# Altium footprint library Elec2PCB_Du_An_Part1.PcbLib: 20 footprints (part 1 of 2)
Each footprint in its own frame and in the unit in brackets; x right, y up, seen from the top. Pads: shape width x height; smd on the part's side, far side on the other; paste and mask are expansions set on the pad; w line width, h text height; cw(c..) or ccw(c..) is an arc to the next point about the centre after c.
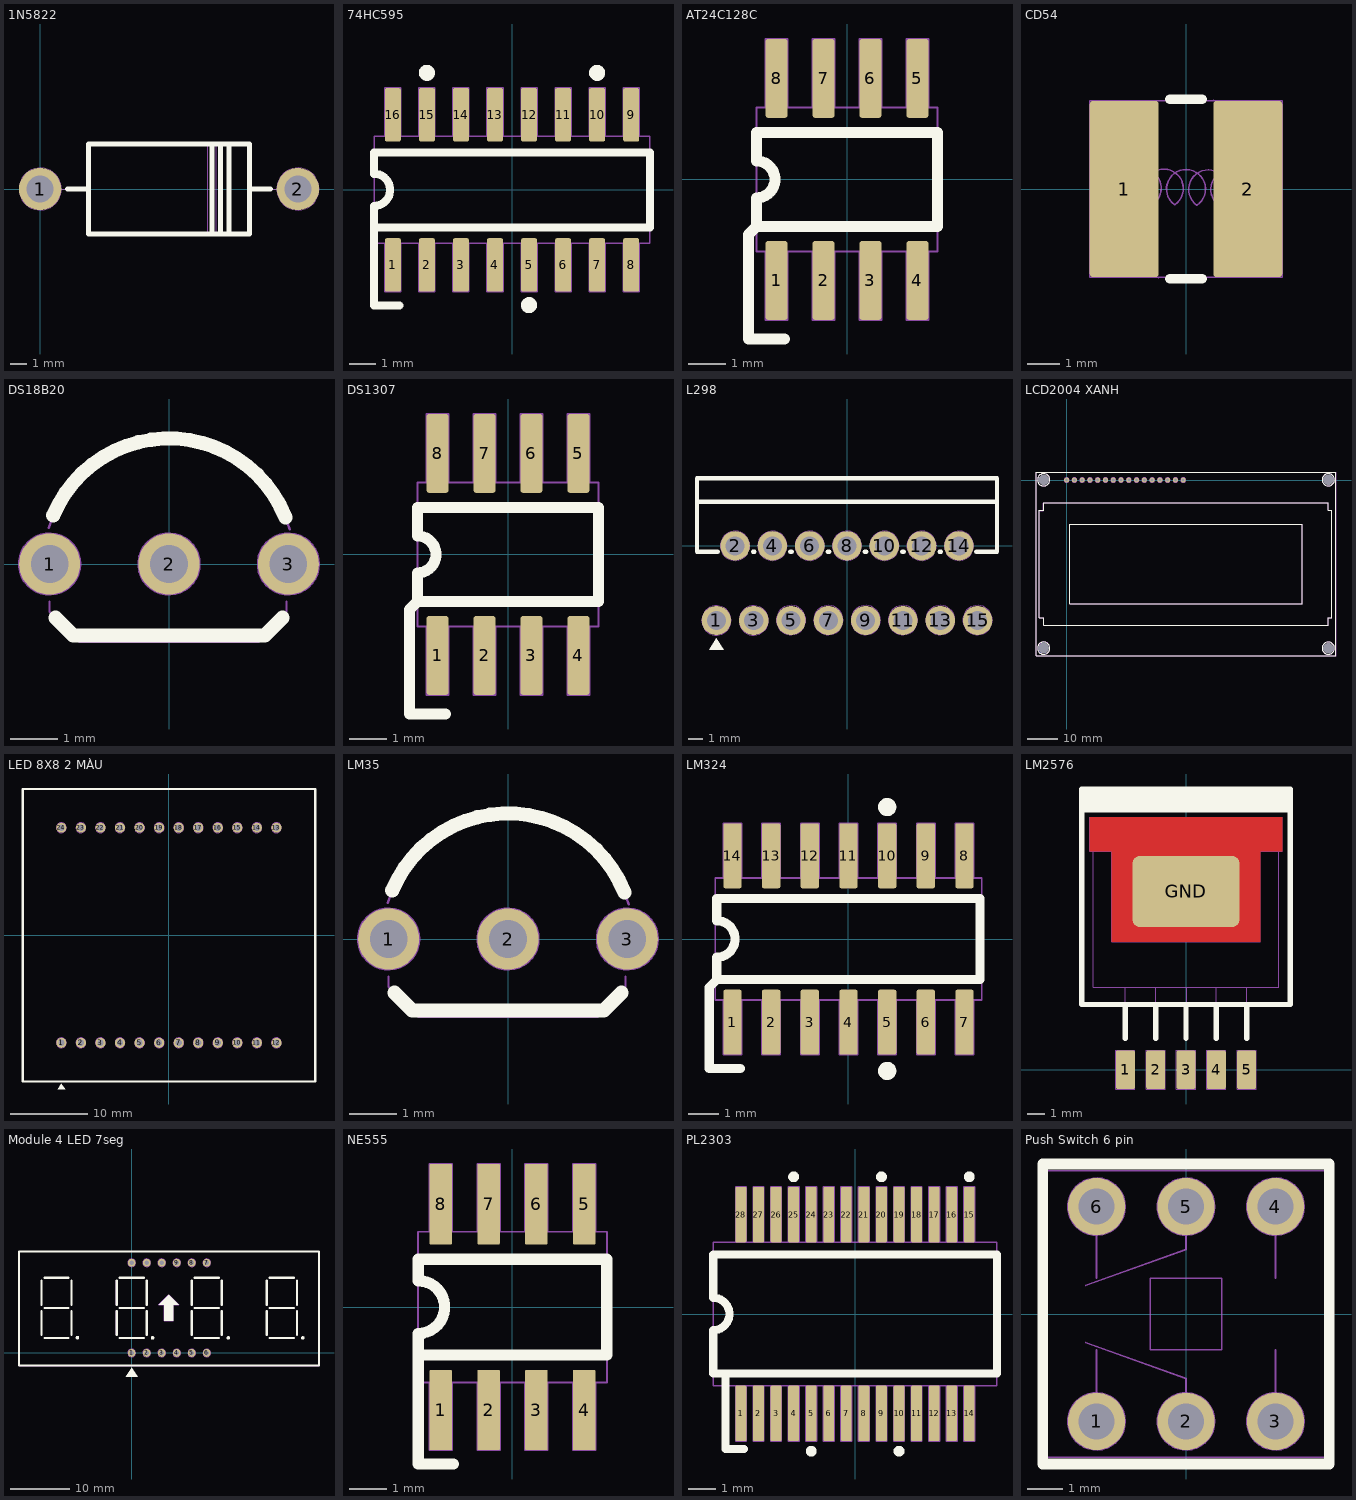
[diagram p0: the footprints below, top view; thin cyan lines are the x and y axes]

## 1N5822 [mm] "Diode 1N5822  9.5mmx5.6mm"
height 5.3
pads (2):
  round 2.5 hole 1.6 paste+0 mask+0.1: 1(0,0) 2(15.24,0)
Top Overlay:
  lines w0.3: 1.62,0 2.87,0 ; 10.16,-2.54 10.16,2.65 ; 10.668,-2.54 10.668,2.65 ; 11.176,-2.54 11.176,2.65 ; 12.37,0 13.62,0 ; 2.87,-2.65 2.87,2.65 12.37,2.65 12.37,-2.65 2.87,-2.65
Mechanical 1:
  circle w0.05: c0,0 r1.25
  circle w0.05: c15.24,0 r1.25
  lines w0.05: 1.25,0 2.87,0 ; 9.906,-2.65 9.906,2.65 ; 10.16,-2.65 10.16,2.65 ; 10.414,-2.65 10.414,2.65 ; 10.668,-2.65 10.668,2.65 ; 12.37,0 13.97,0 ; 2.87,-2.65 2.87,2.65 12.37,2.65 12.37,-2.65 2.87,-2.65
  text "A" at -0.254,-0.508 h1
  text "K" at 14.986,-0.508 h1
3D body "User Library-DO-15-60.STEP": height 3.53, standoff -2, extent -0.525,-1.748 15.765,1.749

## 74HC595 [mm] "SOIC 16-Leads, Body 10.0x6.2mm (max), Pitch 1.27mm"
height 1.75
pads (16):
  rrect25% 0.6x2 smd paste+0 mask+0.1: 1(-4.445,-2.8) 2(-3.175,-2.8) 3(-1.905,-2.8) 4(-0.635,-2.8) 5(0.635,-2.8) 6(1.905,-2.8) 7(3.175,-2.8) 8(4.445,-2.8) 9(4.445,2.8) 10(3.175,2.8) 11(1.905,2.8) 12(0.635,2.8) 13(-0.635,2.8) 14(-1.905,2.8) 15(-3.175,2.8) 16(-4.445,2.8)
Top Overlay:
  circle w0.3: c0.635,-4.3 r0.15
  circle w0.3: c-3.175,4.365 r0.15
  circle w0.3: c3.175,4.365 r0.15
  lines w0.3: -5.145,-2 -5.145,-0.6 ccw(c-5.145,0) -5.145,0.6 -5.145,1.397 5.145,1.397 5.145,-1.397 -5.145,-1.397 -5.145,-4.318 -4.205,-4.318
Mechanical 1:
  lines w0.05: -5.145,-0.6 ccw(c-5.145,0) -5.145,0.6 ; -5.145,-2 5.145,-2 5.145,2 -5.145,2 -5.145,-2 ; -4.745,-3.8 -4.745,-2 -4.145,-2 -4.145,-3.8 -4.745,-3.8 ; -4.745,2 -4.745,3.8 -4.145,3.8 -4.145,2 -4.745,2 ; -3.475,-3.8 -2.875,-3.8 -2.875,-2 -3.475,-2 -3.475,-3.8 ; -3.475,2 -3.475,3.8 -2.875,3.8 -2.875,2 -3.475,2 ; -2.205,-3.8 -1.605,-3.8 -1.605,-2 -2.205,-2 -2.205,-3.8 ; -2.205,2 -2.205,3.8 -1.605,3.8 -1.605,2 -2.205,2 ; -0.935,-3.8 -0.335,-3.8 -0.335,-2 -0.935,-2 -0.935,-3.8 ; -0.935,2 -0.935,3.8 -0.335,3.8 -0.335,2 -0.935,2 ; 0.335,-3.8 0.935,-3.8 0.935,-2 0.335,-2 0.335,-3.8 ; 0.335,2 0.335,3.8 0.935,3.8 0.935,2 0.335,2 ; 1.605,-3.8 2.205,-3.8 2.205,-2 1.605,-2 1.605,-3.8 ; 1.605,2 1.605,3.8 2.205,3.8 2.205,2 1.605,2 ; 2.875,-3.8 3.475,-3.8 3.475,-2 2.875,-2 2.875,-3.8 ; 2.875,2 2.875,3.8 3.475,3.8 3.475,2 2.875,2 ; 4.145,-3.8 4.745,-3.8 4.745,-2 4.145,-2 4.145,-3.8 ; 4.145,2 4.745,2 4.745,3.8 4.145,3.8 4.145,2
  text "1" at -4.572,-1.657 h0.5
  text "8" at 4.445,-1.657 h0.5
  text "9" at 4.318,1.302 h0.5
  text "16" at -4.699,1.302 h0.5
3D body "SOIC16.STEP": height 1.7, standoff 0, extent -5.1,-2.967 5.1,3.032

## AT24C128C [mm] "SOIC, 8- Leads, Body 4.9x3.9 (max), Pitch 1.27mm"
height 1.75
pads (8):
  rrect25% 0.6x2.135 smd paste+0 mask+0.1: 1(-1.905,-2.732) 2(-0.635,-2.732) 3(0.635,-2.732) 4(1.905,-2.732) 5(1.905,2.733) 6(0.635,2.733) 7(-0.635,2.733) 8(-1.905,2.733)
Top Overlay:
  lines w0.3: -1.688,-4.318 -2.667,-4.318 -2.667,-1.487 -2.45,-1.27 ; -2.45,-1.27 2.45,-1.27 2.45,1.27 -2.45,1.27 -2.45,0.5 cw(c-2.45,0) -2.45,-0.5 -2.45,-1.27
Mechanical 1:
  lines w0.05: -2.45,-0.5 ccw(c-2.45,0) -2.45,0.5 ; -2.45,-1.95 2.45,-1.95 2.45,1.95 -2.45,1.95 -2.45,-1.95 ; -2.205,-3.8 -1.605,-3.8 -1.605,-1.95 -2.205,-1.95 -2.205,-3.8 ; -2.205,1.95 -2.205,3.8 -1.605,3.8 -1.605,1.95 -2.205,1.95 ; -0.935,-3.8 -0.935,-1.95 -0.335,-1.95 -0.335,-3.8 -0.935,-3.8 ; -0.935,1.95 -0.935,3.8 -0.335,3.8 -0.335,1.95 -0.935,1.95 ; 0.335,-3.8 0.335,-1.95 0.935,-1.95 0.935,-3.8 0.335,-3.8 ; 0.335,1.95 0.335,3.8 0.935,3.8 0.935,1.95 0.335,1.95 ; 1.605,-3.8 1.605,-1.95 2.205,-1.95 2.205,-3.8 1.605,-3.8 ; 1.605,1.95 2.205,1.95 2.205,3.8 1.605,3.8 1.605,1.95
  text "1" at -2.032,-1.797 h0.5
  text "4" at 1.778,-1.797 h0.5
  text "8" at -2.032,1.189 h0.5
  text "5" at 1.778,1.189 h0.5
3D body "SOIC8.STEP": height 1.7, standoff 0, extent -2.45,-3 2.45,3

## CD54 [mm] "Inductor CD54 100uH 5.5mmx6mm"
height 4.85
pads (2):
  rrect10% 2.15x5.5 smd paste+0 mask+0.1: 1(-1.925,0) 2(1.925,0)
Top Overlay:
  lines w0.3: -0.508,-2.794 0.508,-2.794 ; -0.508,2.794 0.508,2.794
Mechanical 1:
  lines w0.05: -2.857,-0.499 ccw(c0,0) -0.856,-2.771 ; -2.857,0.499 cw(c0,0) -0.915,2.752 ; -2.846,0.497 cw(c-2.9,0) -2.843,-0.497 ; -2.4,0.003 -1.99,0.003 cw(c-1.382,0.022) -1.045,-0.484 cw(c-0.691,0.011) -0.354,-0.495 cw(c0,0) 0.337,-0.506 cw(c0.691,-0.011) 1.028,-0.517 cw(c1.382,-0.022) 1.99,-0.006 2.4,-0.006 ; 0.856,2.771 cw(c0,0) 2.857,0.499 ; 0.915,-2.752 ccw(c0,0) 2.857,-0.499 ; 2.843,0.497 ccw(c2.9,0) 2.846,-0.497
  lines w0.06: -3,-2.75 -3,2.75 -0.85,2.75 0.85,2.75 3,2.75 3,-2.75 0.85,-2.75 -0.85,-2.75 -3,-2.75
3D body "User Library-Inductor VLCF5020T-100M1R1-1.step": height 3.05, standoff 0.1, extent -2.5,-2.5 2.5,2.5

## DS18B20 [mm] "DS18B20_TO-92"
height 6.5
pads (3):
  round 1.3 hole 0.8 mask+0.1: 1(-2.54,0) 2(0,0) 3(2.54,0)
Top Overlay:
  lines w0.3: -2.461,1.036 cw(c0,0) 2.479,0.992 ; -2.413,-1.143 -2.036,-1.52 2.036,-1.52 2.413,-1.143
Mechanical 1:
  circle w0.05: c2.54,0 r0.65
  circle w0.05: c0,0 r0.65
  circle w0.05: c-2.54,0 r0.65
  lines w0.05: -2.557,0.767 cw(c0,0) 2.567,0.734 ; -2.54,-0.8 -2.54,-1.016 -1.905,-1.651 1.905,-1.651 2.5,-1.056 2.5,-0.8
  text "VD" at 2.337,-0.152 h0.3
  text "GND" at -2.972,-0.152 h0.3
  text "Data" at -0.533,-0.152 h0.3
Mechanical 15:
  lines w0.1: -0.5,0 0.5,0 ; 0,-0.5 0,0.5
3D body "TO-92_Bent.STEP": height 10, standoff -3, extent -2.79,-1.59 2.79,2.613

## DS1307 [mm] "SOIC, 8- Leads, Body 4.9x3.9 (max), Pitch 1.27mm"
height 1.75
pads (8):
  rrect25% 0.6x2.135 smd paste+0 mask+0.1: 1(-1.905,-2.732) 2(-0.635,-2.732) 3(0.635,-2.732) 4(1.905,-2.732) 5(1.905,2.733) 6(0.635,2.733) 7(-0.635,2.733) 8(-1.905,2.733)
Top Overlay:
  lines w0.3: -1.688,-4.318 -2.667,-4.318 -2.667,-1.487 -2.45,-1.27 ; -2.45,-1.27 -2.45,-0.5 ccw(c-2.45,0) -2.45,0.5 -2.45,1.27 2.45,1.27 2.45,-1.27 -2.45,-1.27
Mechanical 1:
  lines w0.05: -2.45,-0.5 ccw(c-2.45,0) -2.45,0.5 ; -2.45,-1.95 -2.45,1.95 2.45,1.95 2.45,-1.95 -2.45,-1.95 ; -2.205,-3.8 -2.205,-1.95 -1.605,-1.95 -1.605,-3.8 -2.205,-3.8 ; -2.205,1.95 -1.605,1.95 -1.605,3.8 -2.205,3.8 -2.205,1.95 ; -0.935,-3.8 -0.335,-3.8 -0.335,-1.95 -0.935,-1.95 -0.935,-3.8 ; -0.935,1.95 -0.335,1.95 -0.335,3.8 -0.935,3.8 -0.935,1.95 ; 0.335,-3.8 0.935,-3.8 0.935,-1.95 0.335,-1.95 0.335,-3.8 ; 0.335,1.95 0.935,1.95 0.935,3.8 0.335,3.8 0.335,1.95 ; 1.605,-3.8 2.205,-3.8 2.205,-1.95 1.605,-1.95 1.605,-3.8 ; 1.605,1.95 1.605,3.8 2.205,3.8 2.205,1.95 1.605,1.95
  text "5" at 1.778,1.189 h0.5
  text "8" at -2.032,1.189 h0.5
  text "4" at 1.778,-1.697 h0.5
  text "1" at -2.032,-1.697 h0.5
3D body "SOIC8.STEP": height 1.7, standoff 0, extent -2.45,-3 2.45,3

## L298 [mm] "15pin DIP, 3A"
height 21
pads (15):
  round 2 hole 1.3 mask+0.1: 1(-8.89,-5.08) 2(-7.62,0) 3(-6.35,-5.08) 4(-5.08,0) 5(-3.81,-5.08) 6(-2.54,0) 7(-1.27,-5.08) 8(0,0) 9(1.27,-5.08) 10(2.54,0) 11(3.81,-5.08) 12(5.08,0) 13(6.35,-5.08) 14(7.62,0) 15(8.89,-5.08)
Top Overlay:
  region: -8.89,-6.28 -9.39,-7.08 -8.39,-7.08
  lines w0.3: -10.211,3.007 10.211,3.007 ; -8.8,-0.4 -10.211,-0.4 -10.211,4.607 10.211,4.607 10.211,-0.4 8.8,-0.4 ; -6.401,-0.4 -6.299,-0.4 ; -3.861,-0.4 -3.759,-0.4 ; -1.321,-0.4 -1.219,-0.4 ; 1.219,-0.4 1.321,-0.4 ; 3.759,-0.4 3.861,-0.4 ; 6.299,-0.4 6.401,-0.4
Mechanical 1:
  circle w0.05: c-8.89,-5.08 r1
  circle w0.05: c7.62,0 r1
  circle w0.05: c5.08,0 r1
  circle w0.05: c2.54,0 r1
  circle w0.05: c0,0 r1
  circle w0.05: c-2.54,0 r1
  circle w0.05: c-5.08,0 r1
  circle w0.05: c-7.62,0 r1
  circle w0.05: c8.89,-5.055 r1
  circle w0.05: c6.35,-5.055 r1
  circle w0.05: c3.81,-5.055 r1
  circle w0.05: c1.27,-5.055 r1
  circle w0.05: c-1.27,-5.055 r1
  circle w0.05: c-3.81,-5.055 r1
  circle w0.05: c-6.35,-5.08 r1
  lines w0.05: -10.211,2.997 10.185,2.997 ; -8.738,-0.432 -10.211,-0.432 -10.211,4.597 10.185,4.597 10.185,-0.381 8.814,-0.381
  text "14" at 6.934,-0.533 h1
  text "2" at -7.95,-0.533 h1
  text "15" at 8.153,-5.613 h1
  text "1" at -9.144,-5.613 h1
3D body "L298-Multiwatt15V.step": height 21.8, standoff -0.5, extent -9.775,-5.283 9.825,4.607

## LCD2004 XANH [mm]
pads (20):
  round 1.6 hole 1 mask+0.1: 1(0,0)
  round 1.6 hole 1: 2(2.54,0) 3(5.08,0) 4(7.62,0) 5(10.16,0) 6(12.7,0) 7(15.24,0) 8(17.78,0) 9(20.32,0) 10(22.86,0) 11(25.4,0) 12(27.94,0) 13(30.48,0) 14(33.02,0) 15(35.56,0) 16(38.1,0)
  round 0 hole 3.5 mask+0.1: "Hole 0"(-7.5,0.071) "Hole 0"(-7.46,-54.889) "Hole 0"(85.5,-54.929) "Hole 0"(85.5,0.071)
Top Overlay:
  circle w0.3: c-7.5,-54.929 r2.008
  circle w0.3: c-7.5,0.071 r2.008
  circle w0.3: c85.5,0.071 r2.008
  circle w0.3: c85.5,-54.929 r2.008
  lines w0.254: -8.882,-44.929 -7.539,-44.929 -7.5,-44.969 -7.5,-47.429 ; -8.882,-9.929 -7.534,-9.929 -7.5,-9.895 -7.5,-7.429 ; 85.5,-47.429 85.5,-45.056 86.672,-45.056 ; 85.5,-7.429 85.5,-9.902 85.527,-9.929 86.672,-9.929
  lines w0.3: -8.882,-44.929 -8.882,-9.929 ; -7.5,-47.429 85.5,-47.429 ; -7.5,-7.429 85.5,-7.429 ; 86.672,-45.056 86.672,-9.929 ; -10,-57.429 88,-57.429 88,2.571 -10,2.571 -10,-57.429 ; 1,-40.429 77,-40.429 77,-14.429 1,-14.429 1,-40.429
Mechanical 1:
  circle w0.05: c7.62,0 r0.8
  circle w0.05: c0,0 r0.8
  circle w0.05: c85.5,0.071 r2
  circle w0.05: c85.5,-54.929 r2
  circle w0.05: c-7.46,-54.889 r2
  circle w0.05: c-7.5,0.071 r2
  circle w0.05: c38.1,0 r0.8
  circle w0.05: c35.56,0 r0.8
  circle w0.05: c33.02,0 r0.8
  circle w0.05: c30.48,0 r0.8
  circle w0.05: c27.94,0 r0.8
  circle w0.05: c25.4,0 r0.8
  circle w0.05: c22.86,0 r0.8
  circle w0.05: c20.32,0 r0.8
  circle w0.05: c17.78,0 r0.8
  circle w0.05: c15.24,0 r0.8
  circle w0.05: c12.7,0 r0.8
  circle w0.05: c10.16,0 r0.8
  circle w0.05: c5.08,0 r0.8
  circle w0.05: c2.54,0 r0.8
  lines w0.05: -10,2.489 -10,-57.404 88.019,-57.404 88.019,2.515 -9.975,2.515 ; -8.908,-44.983 -7.485,-44.983 -7.485,-47.447 85.529,-47.447 85.529,-45.034 86.672,-45.034 86.672,-9.906 85.479,-9.906 85.479,-7.442 -7.485,-7.442 -7.562,-7.518 -7.562,-9.957 -7.587,-9.982 -8.882,-9.982 -8.908,-10.008 -8.908,-44.983 ; 1.024,-40.411 1.024,-14.478 76.995,-14.478 76.995,-40.411 1.024,-40.411
  text "16" at 37.821,-0.331 h0.5
  text "1" at -0.127,-0.331 h0.5
3D body "User Library-LCD20_4.STEP": height 10.6, standoff -3.2, extent -10.105,-57.333 87.895,2.667
3D body "Header 1x16.STEP": height 1.5, standoff -10.1, extent -1.27,-1.27 39.37,1.27

## LED 8X8 2 MÀU [mm] "LED Matrix 2 color 38x38mm"
height 10.4
pads (24):
  round 1.3 hole 0.8 mask+0.1: 1(-13.97,-13.97) 2(-11.43,-13.97) 3(-8.89,-13.97) 4(-6.35,-13.97) 5(-3.81,-13.97) 6(-1.27,-13.97) 7(1.27,-13.97) 8(3.81,-13.97) 9(6.35,-13.97) 10(8.89,-13.97) 11(11.43,-13.97) 12(13.97,-13.97)
  round 1.3 hole 0.8: 13(13.97,13.97) 14(11.43,13.97) 15(8.89,13.97) 16(6.35,13.97) 17(3.81,13.97) 18(1.27,13.97) 19(-1.27,13.97) 20(-3.81,13.97) 21(-6.35,13.97) 22(-8.89,13.97) 23(-11.43,13.97) 24(-13.97,13.97)
Top Overlay:
  region: -13.97,-19.27 -14.47,-19.97 -13.47,-19.97
  lines w0.3: -19,-19 -19,19 19,19 19,-19 -19,-19
Mechanical 1:
  circle w0.05: c-13.97,-13.97 r0.65
  circle w0.05: c-11.43,-13.97 r0.65
  circle w0.05: c-8.89,-13.97 r0.65
  circle w0.05: c-6.35,-13.97 r0.65
  circle w0.05: c-3.81,-13.97 r0.65
  circle w0.05: c-1.27,-13.97 r0.65
  circle w0.05: c1.27,-13.97 r0.65
  circle w0.05: c3.81,-13.97 r0.65
  circle w0.05: c6.35,-13.97 r0.65
  circle w0.05: c8.89,-13.97 r0.65
  circle w0.05: c11.43,-13.97 r0.65
  circle w0.05: c13.97,-13.97 r0.65
  circle w0.05: c-13.97,13.97 r0.65
  circle w0.05: c-11.43,13.97 r0.65
  circle w0.05: c-3.81,13.97 r0.65
  circle w0.05: c1.27,13.97 r0.65
  circle w0.05: c3.81,13.97 r0.65
  circle w0.05: c6.35,13.97 r0.65
  circle w0.05: c8.89,13.97 r0.65
  circle w0.05: c11.43,13.97 r0.65
  circle w0.05: c13.97,13.97 r0.65
  circle w0.05: c-8.89,13.97 r0.65
  circle w0.05: c-6.35,13.97 r0.65
  circle w0.05: c-1.27,13.97 r0.65
  lines w0.05: -18.975,-18.975 -18.975,18.973 19.024,18.973 19.024,-18.949 18.998,-18.975 -18.975,-18.975
  text "1" at -14.098,-14.199 h0.5
  text "1" at -14.098,-14.199 h0.5
  text "12" at 13.614,-14.225 h0.5
  text "24" at -14.352,13.715 h0.5
  text "24" at -14.352,13.715 h0.5
  text "13" at 13.588,13.715 h0.5
3D body "User Library-38x38_8x8_LED.step": height 14.4, standoff 0, extent -19,-19.45 19.3,18.85

## LM35 [mm] "TO-92; 3 In-Line, Body Dia. 4.5mm; Leads 0.51 x 0.48 mm (max)"
height 5.34
pads (3):
  round 1.3 hole 0.8 mask+0.1: 1(-2.54,0) 2(0,0) 3(2.54,0)
Top Overlay:
  lines w0.3: -2.461,1.036 cw(c0,0) 2.479,0.992 ; -2.413,-1.143 -2.036,-1.52 2.036,-1.52 2.413,-1.143
Mechanical 1:
  circle w0.05: c2.54,0 r0.65
  circle w0.05: c0,0 r0.65
  circle w0.05: c-2.54,0 r0.65
  lines w0.05: -2.557,0.767 cw(c0,0) 2.567,0.734 ; -2.54,-0.8 -2.54,-1.016 -1.905,-1.651 1.905,-1.651 2.5,-1.056 2.5,-0.8
  text "Vs" at 2.337,-0.152 h0.3
  text "GND" at -2.972,-0.152 h0.3
  text "Vout" at -0.533,-0.152 h0.3
Mechanical 15:
  lines w0.1: -0.5,0 0.5,0 ; 0,-0.5 0,0.5
3D body "TO-92_Bent.STEP": height 10, standoff -3, extent -2.79,-1.59 2.79,2.613

## LM324 [mm] "SOIC 14-Leads, Body 8.65x6.0mm (max), Pitch 1.27mm"
height 1.75
pads (14):
  rrect20% 0.6x2.135 smd paste+0 mask+0.1: 1(-3.81,-2.732) 2(-2.54,-2.732) 3(-1.27,-2.732) 4(0,-2.732) 5(1.27,-2.732) 6(2.54,-2.732) 7(3.81,-2.732) 8(3.81,2.733) 9(2.54,2.733) 10(1.27,2.733) 11(0,2.733) 12(-1.27,2.733) 13(-2.54,2.733) 14(-3.81,2.733)
Top Overlay:
  circle w0.3: c1.27,-4.332 r0.15
  circle w0.3: c1.27,4.333 r0.15
  lines w0.3: -4.325,-1.335 4.325,-1.335 4.325,1.332 -4.325,1.332 -4.325,0.6 cw(c-4.325,0) -4.325,-0.6 -4.325,-1.342 -4.572,-1.589 -4.572,-2.224 -4.572,-4.256 -3.556,-4.256
Mechanical 1:
  lines w0.05: -4.375,-0.6 ccw(c-4.375,0) -4.375,0.6
  lines w0.06: -4.375,-2 4.375,-2 4.375,2 -4.375,2 -4.375,-2 ; -4.11,-3.8 -4.11,-2 -3.51,-2 -3.51,-3.8 -4.11,-3.8 ; -4.11,2 -4.11,3.8 -3.51,3.8 -3.51,2 -4.11,2 ; -2.84,-3.8 -2.24,-3.8 -2.24,-2 -2.84,-2 -2.84,-3.8 ; -2.84,2 -2.84,3.8 -2.24,3.8 -2.24,2 -2.84,2 ; -1.57,-3.8 -0.97,-3.8 -0.97,-2 -1.57,-2 -1.57,-3.8 ; -1.57,2 -1.57,3.8 -0.97,3.8 -0.97,2 -1.57,2 ; -0.3,-3.8 0.3,-3.8 0.3,-2 -0.3,-2 -0.3,-3.8 ; -0.3,2 -0.3,3.8 0.3,3.8 0.3,2 -0.3,2 ; 0.97,-3.8 1.57,-3.8 1.57,-2 0.97,-2 0.97,-3.8 ; 0.97,2 0.97,3.8 1.57,3.8 1.57,2 0.97,2 ; 2.24,-3.8 2.84,-3.8 2.84,-2 2.24,-2 2.24,-3.8 ; 2.24,2 2.24,3.8 2.84,3.8 2.84,2 2.24,2 ; 3.51,-3.8 4.11,-3.8 4.11,-2 3.51,-2 3.51,-3.8 ; 3.51,2 4.11,2 4.11,3.8 3.51,3.8 3.51,2
  text "14" at -4.064,1.078 h0.5
  text "8" at 3.683,1.078 h0.5
  text "7" at 3.683,-1.589 h0.5
  text "1" at -3.81,-1.589 h0.5
3D body "SOIC14.STEP": height 1.6, standoff 0, extent -4.345,-2.995 4.345,2.995

## LM2576 [mm] "TO-263 -5  10.16x13.94, Pitch 1.7mm"
height 4.8
pads (6):
  rrect20% 1.07x2.16 smd paste+0 mask+0.1: 1(-3.4,0) 2(-1.7,0) 3(0,0) 4(1.7,0) 5(3.4,0)
  rrect20% 6x4 smd paste+0 mask+0.1: GND(0,10)
Top Layer:
  region: -4.165,12.26 -4.165,7.18 4.165,7.18 4.165,12.26 5.4,12.26 5.4,14.17 -5.4,14.17 -5.4,12.26
Top Overlay:
  rectangle: -5.842,14.433 5.842,15.748
  lines w0.3: -3.4,1.75 -3.4,3.66 ; -1.7,1.75 -1.7,3.66 ; 0,1.75 0,3.66 ; 1.7,1.75 1.7,3.66 ; 3.4,1.75 3.4,3.66 ; -5.842,3.66 -5.842,15.748 5.842,15.748 5.842,3.66 -5.842,3.66
Mechanical 1:
  lines w0.05: -5.205,12.243 5.205,12.243 ; -3.4,1.7 -3.4,4.623 ; -1.7,1.7 -1.7,4.623 ; 0,1.7 0,4.623 ; 1.7,1.7 1.7,4.623 ; 3.4,1.7 3.4,4.623 ; 4.165,11.878 4.17,11.883 ; 4.165,12.255 4.165,7.18 -4.165,7.18 -4.165,12.26 -5.4,12.26 -5.4,14.17 5.4,14.17 5.4,12.26 4.17,12.26 ; -5.205,4.623 5.205,4.623 5.205,13.005 3.555,13.513 -3.555,13.513 -5.205,13.005 -5.205,11.863 -5.205,4.623 ; -3.935,-1.08 -2.865,-1.08 -2.865,1.08 -3.935,1.08 -3.935,-1.08 ; -2.235,-1.08 -2.235,1.08 -1.165,1.08 -1.165,-1.08 -2.235,-1.08 ; -0.535,-1.08 -0.535,1.08 0.535,1.08 0.535,-1.08 -0.535,-1.08 ; 1.165,-1.08 1.165,1.08 2.235,1.08 2.235,-1.08 1.165,-1.08 ; 2.865,-1.08 2.865,1.08 3.935,1.08 3.935,-1.08 2.865,-1.08
3D body "TO-263 -5pin.STEP": height 4.56, standoff 0, extent -5.06,-0.457 5.1,13.557

## Module 4 LED 7seg [mm] "LDS-5461AX 50.3x19x8mm"
height 8
pads (12):
  round 1.3 hole 0.8 mask+0.1: 1(0,0) 2(2.54,0) 3(5.08,0) 4(7.62,0) 5(10.16,0) 6(12.7,0) 7(12.7,15.24) 8(10.16,15.24) 9(7.62,15.24) 10(5.08,15.24) 11(2.54,15.24) 12(0,15.24)
Top Overlay:
  drawing of 154 lines, arcs and shapes, not listed
Mechanical 1:
  circle w0.05: c7.62,15.24 r0.65
  circle w0.05: c7.62,0 r0.65
  circle w0.05: c12.7,15.24 r0.65
  circle w0.05: c10.16,15.24 r0.65
  circle w0.05: c5.08,15.24 r0.65
  circle w0.05: c2.54,15.24 r0.65
  circle w0.05: c0,15.24 r0.65
  circle w0.05: c0,15.24 r0.65
  circle w0.05: c12.7,0 r0.65
  circle w0.05: c10.16,0 r0.65
  circle w0.05: c5.08,0 r0.65
  circle w0.05: c2.54,0 r0.65
  circle w0.05: c0,0 r0.65
  lines w0.05: -15.265,8.103 -15.24,8.128 -15.24,12.192 ; -15.24,3.073 -15.24,7.087 ; -14.783,7.569 -10.643,7.569 ; -14.757,12.7 -10.668,12.7 ; -14.732,2.565 -10.668,2.565 ; -10.16,3.048 -10.16,7.163 ; -10.135,8.077 -10.135,12.217 ; -2.591,8.153 -2.565,8.179 -2.565,12.243 ; -2.565,3.124 -2.565,7.137 ; -2.108,7.62 2.032,7.62 ; -2.083,12.751 2.007,12.751 ; -2.057,2.616 2.007,2.616 ; 2.515,3.099 2.515,7.214 ; 2.54,8.128 2.54,12.268 ; 10.135,8.103 10.16,8.128 10.16,12.192 ; 10.16,3.073 10.16,7.087 ; 10.617,7.569 14.757,7.569 ; 10.643,12.7 14.732,12.7 ; 10.668,2.565 14.732,2.565 ; 15.24,3.048 15.24,7.163 ; 15.265,8.077 15.265,12.217 ; 22.885,8.103 22.911,8.128 22.911,12.192 ; 22.911,3.073 22.911,7.087 ; 23.368,7.569 27.508,7.569 ; 23.393,12.7 27.483,12.7 ; 23.419,2.565 27.483,2.565 ; 27.991,3.048 27.991,7.163 ; 28.016,8.077 28.016,12.217 ; -19.05,-2.134 31.674,-2.134 31.674,17.17 -19.05,17.17 -19.05,-2.134 ; 4.572,8.153 6.248,9.83 6.274,9.83 7.95,8.153 7.01,8.153 7.01,5.461 5.512,5.461 5.512,8.153 4.572,8.153
  text "12" at -0.356,14.935 h0.5
  text "7" at 12.598,14.935 h0.5
  text "6" at 12.548,-0.254 h0.5
  text "1" at -0.076,-0.254 h0.5
3D body "User Library-C-564 (7 segment 4 digit LED display).step": height 8, standoff -6.2, extent -18.926,-1.982 31.474,17.018

## NE555 [mm] "SOP8, Pitch 1.27"
height 1.75
pads (8):
  rrect10% 0.6x2.135 smd paste+0 mask+0.1: 1(-1.905,-2.732) 2(-0.635,-2.732) 3(0.635,-2.732) 4(1.905,-2.732) 5(1.905,2.733) 6(0.635,2.733) 7(-0.635,2.733) 8(-1.905,2.733)
Top Overlay:
  lines w0.3: -1.564,-4.166 -2.5,-4.166 -2.5,-1.27 ; -2.5,-1.27 -2.5,-0.7 ccw(c-2.5,0) -2.5,0.7 -2.5,1.27 2.5,1.27 2.5,-1.27 -2.5,-1.27
Mechanical 1:
  lines w0.05: -2.505,0.705 cw(c-2.505,0) -2.501,-0.705 ; -2.505,-2 -2.505,2 2.505,2 2.505,-2 -2.505,-2 ; -2.205,-3.8 -2.205,-2 -1.605,-2 -1.605,-3.8 -2.205,-3.8 ; -2.205,2 -1.605,2 -1.605,3.8 -2.205,3.8 -2.205,2 ; -0.935,-3.8 -0.335,-3.8 -0.335,-2 -0.935,-2 -0.935,-3.8 ; -0.935,2 -0.335,2 -0.335,3.8 -0.935,3.8 -0.935,2 ; 0.335,-3.8 0.935,-3.8 0.935,-2 0.335,-2 0.335,-3.8 ; 0.335,2 0.935,2 0.935,3.8 0.335,3.8 0.335,2 ; 1.605,-3.8 2.205,-3.8 2.205,-2 1.605,-2 1.605,-3.8 ; 1.605,2 1.605,3.8 2.205,3.8 2.205,2 1.605,2
  text "8" at -2.032,1.27 h0.5
  text "5" at 1.905,1.27 h0.5
  text "4" at 1.905,-1.778 h0.5
  text "1" at -2.032,-1.778 h0.5
3D body "SOP8.STEP": height 1.7, standoff 0, extent -2.413,-2.997 2.413,2.997

## PL2303 [mm] "SSOP-28: Wb=5,3mm, Wl=7,8mm, L=10,2mm, H=1,8mm, P=0,65"
height 2
pads (28):
  rrect20% 0.4x2.05 smd paste+0 mask+0.05: 1(-4.225,-3.675) 2(-3.575,-3.675) 3(-2.925,-3.675) 4(-2.275,-3.675) 5(-1.625,-3.675) 6(-0.975,-3.675) 7(-0.325,-3.675) 8(0.325,-3.675) 9(0.975,-3.675) 10(1.625,-3.675) 11(2.275,-3.675) 12(2.925,-3.675) 13(3.575,-3.675) 14(4.225,-3.675) 15(4.225,3.675) 16(3.575,3.675) 17(2.925,3.675) 18(2.275,3.675) 19(1.625,3.675) 20(0.975,3.675) 21(0.325,3.675) 22(-0.325,3.675) 23(-0.975,3.675) 24(-1.625,3.675) 25(-2.275,3.675) 26(-2.925,3.675) 27(-3.575,3.675) 28(-4.225,3.675)
Top Overlay:
  circle w0.3: c4.225,5.075 r0.05
  circle w0.3: c0.975,5.075 r0.05
  circle w0.3: c-2.275,5.075 r0.05
  circle w0.3: c-1.625,-5.075 r0.05
  circle w0.3: c1.625,-5.075 r0.05
  lines w0.3: -4.8,-2.2 -4.8,-4.99 -4.107,-4.99 ; -5.25,-2.2 -5.25,-0.6 ccw(c-5.25,0) -5.25,0.6 -5.25,2.2 5.25,2.2 5.25,-2.2 -5.25,-2.2
Mechanical 1:
  lines w0.05: -5.25,-0.6 ccw(c-5.25,0) -5.25,0.6 ; -5.25,-2.65 -5.25,2.65 5.25,2.65 5.25,-2.65 -5.25,-2.65 ; -4.425,-4.7 -4.025,-4.7 -4.025,-2.65 -4.425,-2.65 -4.425,-4.7 ; -4.425,2.65 -4.025,2.65 -4.025,4.7 -4.425,4.7 -4.425,2.65 ; -3.775,-4.7 -3.775,-2.65 -3.375,-2.65 -3.375,-4.7 -3.775,-4.7 ; -3.775,2.65 -3.375,2.65 -3.375,4.7 -3.775,4.7 -3.775,2.65 ; -3.125,-4.7 -3.125,-2.65 -2.725,-2.65 -2.725,-4.7 -3.125,-4.7 ; -3.125,2.65 -2.725,2.65 -2.725,4.7 -3.125,4.7 -3.125,2.65 ; -2.475,-4.7 -2.475,-2.65 -2.075,-2.65 -2.075,-4.7 -2.475,-4.7 ; -2.475,2.65 -2.075,2.65 -2.075,4.7 -2.475,4.7 -2.475,2.65 ; -1.825,-4.7 -1.825,-2.65 -1.425,-2.65 -1.425,-4.7 -1.825,-4.7 ; -1.825,2.65 -1.425,2.65 -1.425,4.7 -1.825,4.7 -1.825,2.65 ; -1.175,-4.7 -1.175,-2.65 -0.775,-2.65 -0.775,-4.7 -1.175,-4.7 ; -1.175,2.65 -0.775,2.65 -0.775,4.7 -1.175,4.7 -1.175,2.65 ; -0.525,-4.7 -0.525,-2.65 -0.125,-2.65 -0.125,-4.7 -0.525,-4.7 ; -0.525,2.65 -0.125,2.65 -0.125,4.7 -0.525,4.7 -0.525,2.65 ; 0.125,-4.7 0.125,-2.65 0.525,-2.65 0.525,-4.7 0.125,-4.7 ; 0.125,2.65 0.525,2.65 0.525,4.7 0.125,4.7 0.125,2.65 ; 0.775,-4.7 0.775,-2.65 1.175,-2.65 1.175,-4.7 0.775,-4.7 ; 0.775,2.65 1.175,2.65 1.175,4.7 0.775,4.7 0.775,2.65 ; 1.425,-4.7 1.425,-2.65 1.825,-2.65 1.825,-4.7 1.425,-4.7 ; 1.425,2.65 1.825,2.65 1.825,4.7 1.425,4.7 1.425,2.65 ; 2.075,-4.7 2.075,-2.65 2.475,-2.65 2.475,-4.7 2.075,-4.7 ; 2.075,2.65 2.475,2.65 2.475,4.7 2.075,4.7 2.075,2.65 ; 2.725,-4.7 2.725,-2.65 3.125,-2.65 3.125,-4.7 2.725,-4.7 ; 2.725,2.65 3.125,2.65 3.125,4.7 2.725,4.7 2.725,2.65 ; 3.375,-4.7 3.375,-2.65 3.775,-2.65 3.775,-4.7 3.375,-4.7 ; 3.375,2.65 3.775,2.65 3.775,4.7 3.375,4.7 3.375,2.65 ; 4.025,-4.7 4.025,-2.65 4.425,-2.65 4.425,-4.7 4.025,-4.7 ; 4.025,2.65 4.025,4.7 4.425,4.7 4.425,2.65 4.025,2.65
  text "28" at -4.648,1.803 h0.5
  text "15" at 3.903,1.803 h0.5
  text "14" at 3.903,-2.351 h0.5
  text "1" at -4.479,-2.351 h0.5
3D body "SSOP28.STEP": height 1.9, standoff 0, extent -5.1,-3.9 5.1,3.9

## Push Switch 6 pin [mm] "Push Switch 6 pin 8mmx8mm"
height 13.7
pads (6):
  round 1.6 hole 1 paste+0 mask+0.1: 1(-2.5,-3) 2(0,-3) 3(2.5,-3) 4(2.5,3) 5(0,3) 6(-2.5,3)
Top Overlay:
  lines w0.3: -4,-4.191 -4,4.191 4,4.191 4,-4.191 -4,-4.191
Mechanical 1:
  circle w0.05: c-2.5,-3 r0.8
  circle w0.05: c0,-3 r0.8
  circle w0.05: c2.5,-3 r0.8
  circle w0.05: c-2.5,3 r0.8
  circle w0.05: c0,3 r0.8
  circle w0.05: c2.5,3 r0.8
  lines w0.05: -2.8,-0.8 0,-1.8 0,-2.2 ; -2.8,0.8 0,1.8 0,2.2 ; -2.5,-2.2 -2.5,-1 ; -2.5,1 -2.5,2.2 ; 2.5,-2.2 2.5,-1 ; 2.5,1 2.5,2.2 ; -4,-4 -4,4 4,4 4,-4 -4,-4 ; -1,-1 1,-1 1,1 -1,1 -1,-1
  text "1" at -2.62,-3.44 h0.8
  text "3" at 2.23,-3.38 h0.8
  text "4" at 2.2,2.59 h0.8
  text "6" at -2.77,2.67 h0.8